# Altium footprint library molex_43045.PcbLib: 9 footprints
Each footprint in its own frame and in the unit in brackets; x right, y up, seen from the top. Pads: shape width x height; smd on the part's side, far side on the other; paste and mask are expansions set on the pad; w line width, h text height; cw(c..) or ccw(c..) is an arc to the next point about the centre after c.
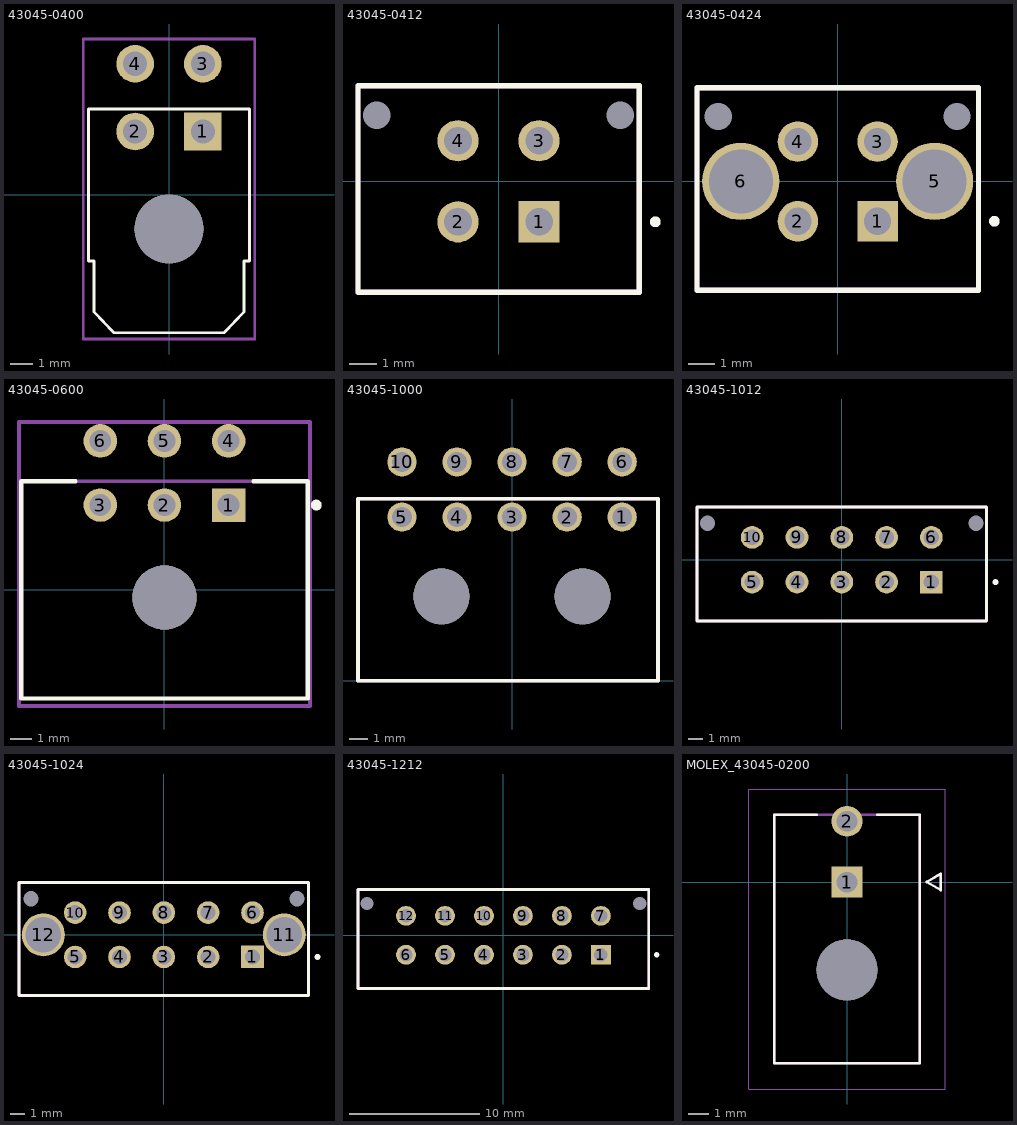
[diagram p0: the footprints below, top view; thin cyan lines are the x and y axes]

## 43045-0400 [mm]
pads (5):
  rect 1.67x1.67 hole 1.07: 1(1.5,2.8)
  round 1.67 hole 1.07: 2(-1.5,2.8) 3(1.5,5.8) 4(-1.5,5.8)
  round 3.05 hole 3.05 unplated: ""(0,-1.52)
Top Overlay:
  lines w0.127: -3.575,-2.95 -3.575,3.79 3.575,3.79 3.575,-2.95 3.325,-2.95 3.325,-5.2 2.45,-6.12 -2.45,-6.12 -3.325,-5.2 -3.325,-2.95 -3.575,-2.95
Mechanical 15:
  lines w0.127: -3.8,-6.4 3.8,-6.4 3.8,6.9 -3.8,6.9 -3.8,-6.4
3D body "430450400--3DModel-STEP-1.STEP": height 8.77, standoff -3.18, extent -5.07,-6.096 5.08,6.144

## 43045-0412 [mm]
height 9.91
pads (6):
  rect 1.524x1.524 hole 1.02: 1(1.5,-1.5)
  round 1.524 hole 1.02: 2(-1.5,-1.5) 3(1.5,1.5) 4(-1.5,1.5)
  round 0 hole 1.02 unplated: ""(-4.5,2.44) ""(4.5,2.44)
Top Overlay:
  circle w0.2: c5.8,-1.5 r0.1
  lines w0.2: -5.2,-4.1 5.2,-4.1 5.2,3.53 -5.2,3.53 -5.2,-4.1
Mechanical 1:
  lines w0.2: -5.2,-4.1 5.2,-4.1 5.2,3.53 -5.2,3.53 -5.2,-4.1
3D body "430450412.stp": height 9.95, standoff -3.14, extent -5.075,-3.97 5.075,4.8

## 43045-0424 [mm]
pads (8):
  rect 1.524x1.524 hole 1.02: 1(1.5,-1.5)
  round 1.524 hole 1.02: 2(-1.5,-1.5) 3(1.5,1.5) 4(-1.5,1.5)
  round 2.91 hole 2.41 mask+0.076: 5(3.65,0) 6(-3.65,0)
  round 0 hole 1.02: 7(4.5,2.44) 8(-4.5,2.44)
Top Overlay:
  circle w0.2: c5.9,-1.5 r0.1
  lines w0.2: -5.3,-4.1 -5.3,3.53 5.3,3.53 5.3,-4.1 -5.3,-4.1
Mechanical 1:
  lines w0.2: -1.55,-4.1 -5.3,-4.1 ; -5.3,-4.1 -5.3,3.53 5.3,3.53 5.3,-4.1 -5.3,-4.1
3D body "43045-0424.stp": height 9.92, standoff -3.17, extent -5.075,-3.97 5.075,4.8

## 43045-0600 [mm]
pads (7):
  rect 1.57x1.57 hole 1.02 paste-2539.97 mask+0: 1(3,3.965)
  round 1.57 hole 1.02 paste-2539.97 mask+0: 2(0,3.965) 3(-3,3.965) 4(3,6.965) 5(0,6.965) 6(-3,6.965)
  round 3 hole 3 unplated paste-2539.97 mask+0: ""(0,-0.355)
Top Overlay:
  circle w0.25: c7.1,3.965 r0.125
  lines w0.2: -4.16,5.08 -6.7,5.08 -6.7,-5.08 6.7,-5.08 6.7,5.08 4.16,5.08
Mechanical 10:
  lines w0.2: -6.8,-5.43 -6.8,7.85 6.8,7.85 6.8,-5.43 -6.8,-5.43
  text "43045-0600" at 0,1.21 h1
Mechanical 12:
  lines w0.15: -6.7,-5.08 -6.7,5.08 6.7,5.08 6.7,-5.08 -6.7,-5.08
Mechanical 15:
  lines w0.1: -0.5,0 0.5,0 ; 0,-0.5 0,0.5
  lines w0.2: -6.8,-5.43 -6.8,7.85 6.8,7.85 6.8,-5.43 -6.8,-5.43
3D body "Conn_Molex_43045-0600_eec.STEP": height 0.25, standoff 0, extent -6.8,-5.43 6.8,7.85

## 43045-1000 [mm]
pads (12):
  round 1.6 hole 1.07: 1(6,8.92) 2(3,8.92) 3(0,8.92) 4(-3,8.92) 5(-6,8.92) 6(6,11.92) 7(3,11.92) 8(0,11.92) 9(-3,11.92) 10(-6,11.92)
  round 3.05 hole 3.05 unplated: ""(-3.85,4.6) ""(3.85,4.6)
Top Overlay:
  lines w0.2: -8.396,0 7.956,0 7.956,9.91 -8.396,9.91 -8.396,0
Mechanical 13:
  lines w0.2: -8.396,0 -8.396,9.91 7.956,9.91 7.956,0 -8.396,0
3D body "step_temp.STEP": height 8.77, standoff -3.18, extent -9.575,0 9.575,12.24

## 43045-1012 [mm]
height 9.91
pads (12):
  rect 1.524x1.524 hole 1.02: 1(6,-1.5)
  round 1.524 hole 1.02: 2(3,-1.5) 3(0,-1.5) 4(-3,-1.5) 5(-6,-1.5) 6(6,1.5) 7(3,1.5) 8(0,1.5) 9(-3,1.5) 10(-6,1.5)
  round 0 hole 1.02 unplated: ""(-9,2.44) ""(9,2.44)
Top Overlay:
  circle w0.2: c10.3,-1.5 r0.1
  lines w0.2: -9.7,-4.1 9.7,-4.1 9.7,3.53 -9.7,3.53 -9.7,-4.1
Mechanical 1:
  lines w0.2: -9.7,-4.1 9.7,-4.1 9.7,3.53 -9.7,3.53 -9.7,-4.1
3D body "430451012.stp": height 9.95, standoff -3.14, extent -9.575,-3.97 9.575,4.8

## 43045-1024 [mm]
pads (14):
  rect 1.524x1.524 hole 1.02: 1(6,-1.5)
  round 1.524 hole 1.02: 2(3,-1.5) 3(0,-1.5) 4(-3,-1.5) 5(-6,-1.5) 6(6,1.5) 7(3,1.5) 8(0,1.5) 9(-3,1.5) 10(-6,1.5)
  round 2.91 hole 2.41 mask+0.076: 11(8.15,0) 12(-8.15,0)
  round 0 hole 1.02: 13(9,2.44) 14(-9,2.44)
Top Overlay:
  circle w0.2: c10.4,-1.5 r0.1
  lines w0.2: -9.8,-4.1 9.8,-4.1 9.8,3.53 -9.8,3.53 -9.8,-4.1
Mechanical 1:
  lines w0.2: -9.8,-4.1 9.8,-4.1 9.8,3.53 -9.8,3.53 -9.8,-4.1
3D body "43045-1024.stp": height 9.92, standoff -3.17, extent -9.575,-3.97 9.575,4.8

## 43045-1212 [mm]
pads (14):
  rect 1.524x1.524 hole 1.02: 1(7.5,-1.5)
  round 1.524 hole 1.02: 2(4.5,-1.5) 3(1.5,-1.5) 4(-1.5,-1.5) 5(-4.5,-1.5) 6(-7.5,-1.5) 7(7.5,1.5) 8(4.5,1.5) 9(1.5,1.5) 10(-1.5,1.5) 11(-4.5,1.5) 12(-7.5,1.5)
  round 0 hole 1.02 unplated: ""(-10.5,2.44) ""(10.5,2.44)
Top Overlay:
  circle w0.2: c11.8,-1.5 r0.1
  lines w0.2: -11.2,-4.1 -11.2,3.53 11.2,3.53 11.2,-4.1 -11.2,-4.1
Mechanical 1:
  lines w0.2: -11.2,-4.1 -11.2,3.53 11.2,3.53 11.2,-4.1 -11.2,-4.1
3D body "43045-1212.stp": height 9.95, standoff -3.14, extent -11.075,-3.94 11.075,4.83

## MOLEX_43045-0200 [mm]
height 8.77
pads (3):
  rect 1.52x1.52 hole 1.02 mask+0.076: 1(0,0)
  round 1.52 hole 1.02 mask+0.076: 2(0,3)
  round 3 hole 3 unplated mask+0.076: ""(0,-4.32)
Top Overlay:
  lines w0.127: -1.5,3.32 -3.575,3.32 -3.575,-8.92 3.575,-8.92 3.575,3.32 1.5,3.32 ; 3.92,0.01 4.62,-0.39 4.62,0.41 3.92,0.01
Mechanical 13:
  lines w0.127: -3.575,-8.92 -3.575,3.32 3.575,3.32 3.575,-8.92 -3.575,-8.92 ; 3.92,0.01 4.62,-0.39 4.62,0.41 3.92,0.01
Mechanical 15:
  lines w0.05: -4.845,-10.19 -4.845,4.59 4.845,4.59 4.845,-10.19 -4.845,-10.19
3D body "step_temp.STEP": height 8.78, standoff -3.17, extent -3.556,-8.914 3.594,3.326